# Altium footprint library Connector_PinHeader_2.54mm.PcbLib: 278 footprints (part 16 of 18)
Each footprint in its own frame and in the unit in brackets; x right, y up, seen from the top. Pads: shape width x height; smd on the part's side, far side on the other; paste and mask are expansions set on the pad; w line width, h text height; cw(c..) or ccw(c..) is an arc to the next point about the centre after c.
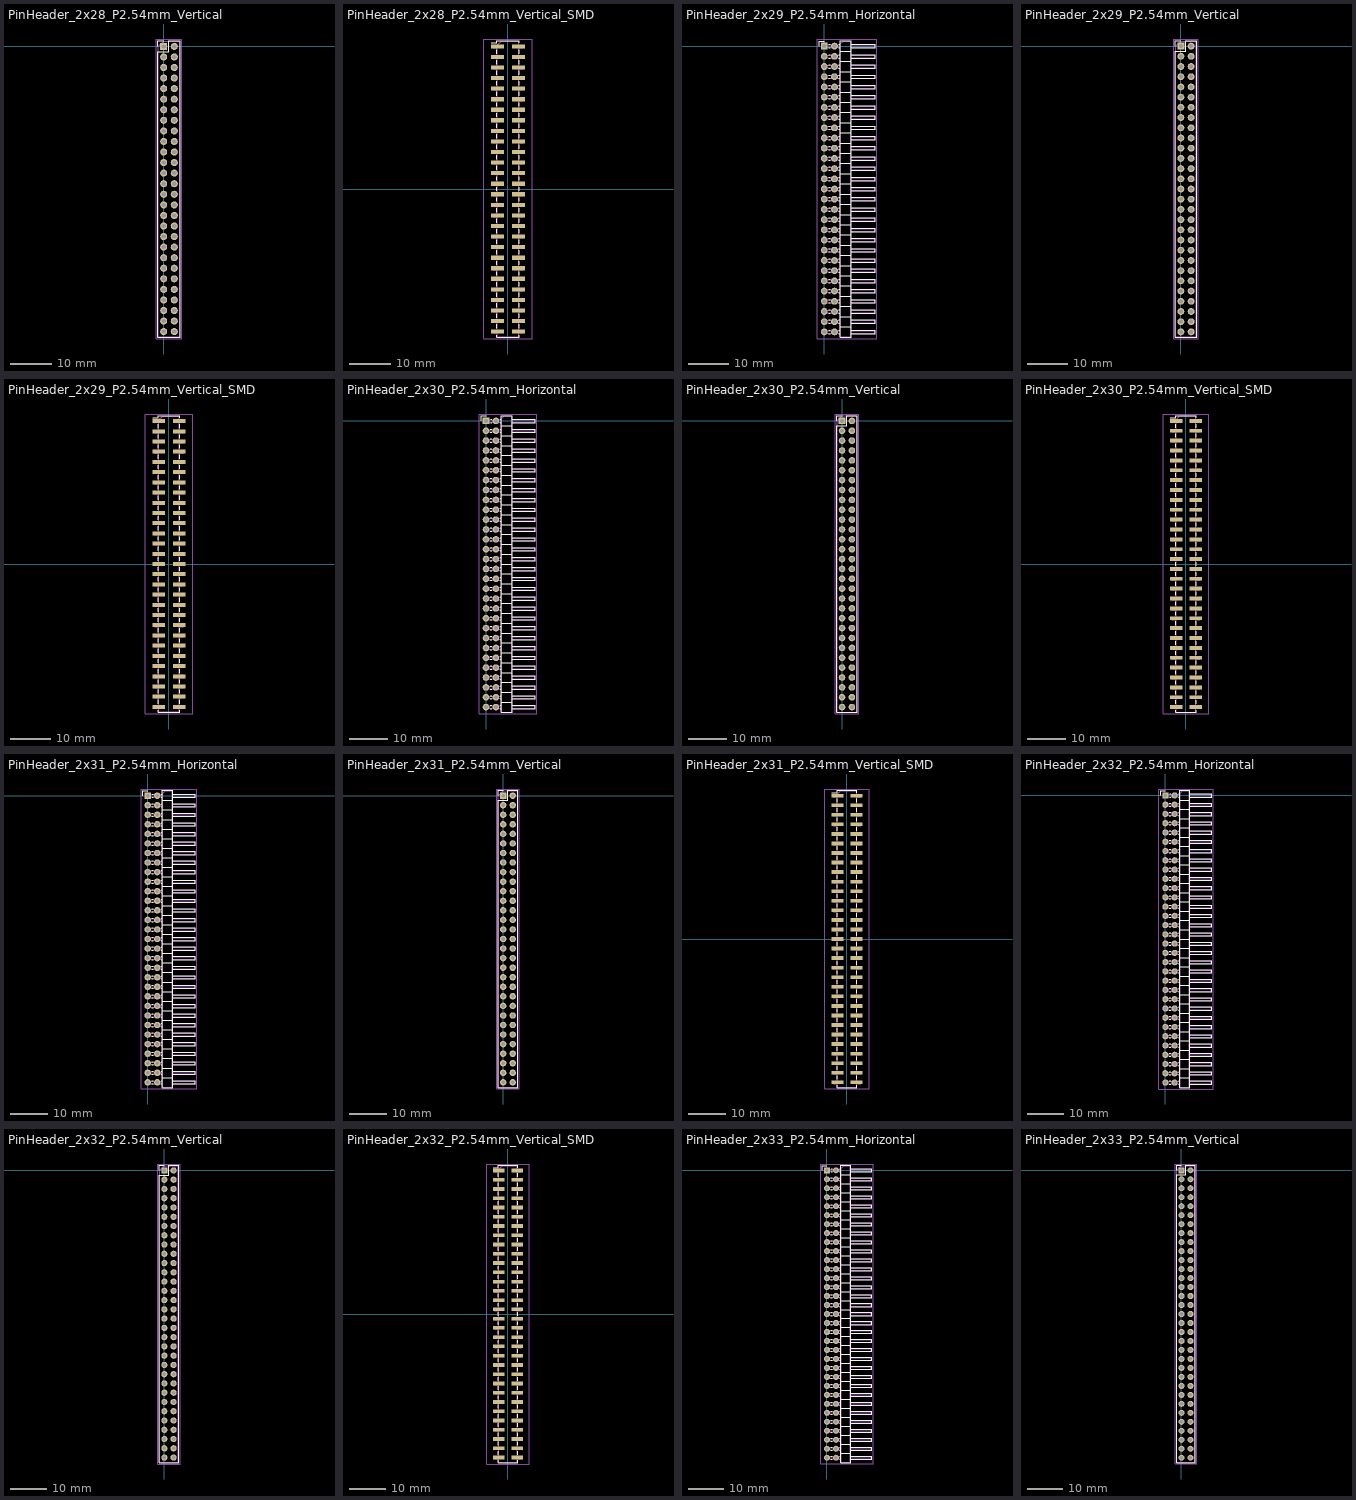
[diagram p15: the footprints below, top view; thin cyan lines are the x and y axes]

## PinHeader_2x28_P2.54mm_Vertical [mm]
pads (56):
  rect 1.7x1.7 hole 1: 1(0,0)
  round 1.7 hole 1: 2(2.54,0) 3(0,-2.54) 4(2.54,-2.54) 5(0,-5.08) 6(2.54,-5.08) 7(0,-7.62) 8(2.54,-7.62) 9(0,-10.16) 10(2.54,-10.16) 11(0,-12.7) 12(2.54,-12.7) 13(0,-15.24) 14(2.54,-15.24) 15(0,-17.78) 16(2.54,-17.78) 17(0,-20.32) 18(2.54,-20.32) 19(0,-22.86) 20(2.54,-22.86) 21(0,-25.4) 22(2.54,-25.4) 23(0,-27.94) 24(2.54,-27.94) 25(0,-30.48) 26(2.54,-30.48) 27(0,-33.02) 28(2.54,-33.02) 29(0,-35.56) 30(2.54,-35.56) 31(0,-38.1) 32(2.54,-38.1) 33(0,-40.64) 34(2.54,-40.64) 35(0,-43.18) 36(2.54,-43.18) 37(0,-45.72) 38(2.54,-45.72) 39(0,-48.26) 40(2.54,-48.26) 41(0,-50.8) 42(2.54,-50.8) 43(0,-53.34) 44(2.54,-53.34) 45(0,-55.88) 46(2.54,-55.88) 47(0,-58.42) 48(2.54,-58.42) 49(0,-60.96) 50(2.54,-60.96) 51(0,-63.5) 52(2.54,-63.5) 53(0,-66.04) 54(2.54,-66.04) 55(0,-68.58) 56(2.54,-68.58)
F.SilkS:
  lines w0.254: -1.38,0 -1.38,1.38 0,1.38 ; -1.38,-69.96 3.92,-69.96 3.92,1.38 1.27,1.38 1.27,-1.27 -1.38,-1.27 -1.38,-69.96
Top Assembly:
  lines w0.254: -1.27,-69.85 3.81,-69.85 3.81,1.27 0,1.27 -1.27,0 -1.27,-69.85
  text "'.Designator'" at 2.11,-38.337 h1
Top Courtyard:
  lines w0.254: -1.77,-70.35 4.32,-70.35 4.32,1.77 -1.77,1.77 -1.77,-70.35
Top Designator:
  text ".Designator" at -6.343,-34.798 h1.52

## PinHeader_2x28_P2.54mm_Vertical_SMD [mm]
pads (56):
  rect 3.15x1 smd: 1(-2.525,34.29) 2(2.525,34.29) 3(-2.525,31.75) 4(2.525,31.75) 5(-2.525,29.21) 6(2.525,29.21) 7(-2.525,26.67) 8(2.525,26.67) 9(-2.525,24.13) 10(2.525,24.13) 11(-2.525,21.59) 12(2.525,21.59) 13(-2.525,19.05) 14(2.525,19.05) 15(-2.525,16.51) 16(2.525,16.51) 17(-2.525,13.97) 18(2.525,13.97) 19(-2.525,11.43) 20(2.525,11.43) 21(-2.525,8.89) 22(2.525,8.89) 23(-2.525,6.35) 24(2.525,6.35) 25(-2.525,3.81) 26(2.525,3.81) 27(-2.525,1.27) 28(2.525,1.27) 29(-2.525,-1.27) 30(2.525,-1.27) 31(-2.525,-3.81) 32(2.525,-3.81) 33(-2.525,-6.35) 34(2.525,-6.35) 35(-2.525,-8.89) 36(2.525,-8.89) 37(-2.525,-11.43) 38(2.525,-11.43) 39(-2.525,-13.97) 40(2.525,-13.97) 41(-2.525,-16.51) 42(2.525,-16.51) 43(-2.525,-19.05) 44(2.525,-19.05) 45(-2.525,-21.59) 46(2.525,-21.59) 47(-2.525,-24.13) 48(2.525,-24.13) 49(-2.525,-26.67) 50(2.525,-26.67) 51(-2.525,-29.21) 52(2.525,-29.21) 53(-2.525,-31.75) 54(2.525,-31.75) 55(-2.525,-34.29) 56(2.525,-34.29)
F.SilkS:
  lines w0.254: -4.04,35.1 -2.65,35.1 -2.65,35.67 2.65,35.67 2.65,35.1 ; -2.65,-35.1 -2.65,-35.67 2.65,-35.67 2.65,-35.1 ; -2.65,-33.48 -2.65,-32.56 ; -2.65,-30.94 -2.65,-30.02 ; -2.65,-28.4 -2.65,-27.48 ; -2.65,-25.86 -2.65,-24.94 ; -2.65,-23.32 -2.65,-22.4 ; -2.65,-20.78 -2.65,-19.86 ; -2.65,-18.24 -2.65,-17.32 ; -2.65,-15.7 -2.65,-14.78 ; -2.65,-13.16 -2.65,-12.24 ; -2.65,-10.62 -2.65,-9.7 ; -2.65,-8.08 -2.65,-7.16 ; -2.65,-5.54 -2.65,-4.62 ; -2.65,-3 -2.65,-2.08 ; -2.65,-0.46 -2.65,0.46 ; -2.65,2.08 -2.65,3 ; -2.65,4.62 -2.65,5.54 ; -2.65,7.16 -2.65,8.08 ; -2.65,9.7 -2.65,10.62 ; -2.65,12.24 -2.65,13.16 ; -2.65,14.78 -2.65,15.7 ; -2.65,17.32 -2.65,18.24 ; -2.65,19.86 -2.65,20.78 ; -2.65,22.4 -2.65,23.32 ; -2.65,24.94 -2.65,25.86 ; -2.65,27.48 -2.65,28.4 ; -2.65,30.02 -2.65,30.94 ; -2.65,32.56 -2.65,33.48 ; 2.65,-33.48 2.65,-32.56 ; 2.65,-30.94 2.65,-30.02 ; 2.65,-28.4 2.65,-27.48 ; 2.65,-25.86 2.65,-24.94 ; 2.65,-23.32 2.65,-22.4 ; 2.65,-20.78 2.65,-19.86 ; 2.65,-18.24 2.65,-17.32 ; 2.65,-15.7 2.65,-14.78 ; 2.65,-13.16 2.65,-12.24 ; 2.65,-10.62 2.65,-9.7 ; 2.65,-8.08 2.65,-7.16 ; 2.65,-5.54 2.65,-4.62 ; 2.65,-3 2.65,-2.08 ; 2.65,-0.46 2.65,0.46 ; 2.65,2.08 2.65,3 ; 2.65,4.62 2.65,5.54 ; 2.65,7.16 2.65,8.08 ; 2.65,9.7 2.65,10.62 ; 2.65,12.24 2.65,13.16 ; 2.65,14.78 2.65,15.7 ; 2.65,17.32 2.65,18.24 ; 2.65,19.86 2.65,20.78 ; 2.65,22.4 2.65,23.32 ; 2.65,24.94 2.65,25.86 ; 2.65,27.48 2.65,28.4 ; 2.65,30.02 2.65,30.94 ; 2.65,32.56 2.65,33.48
Top Assembly:
  drawing of 173 lines, arcs and shapes, not listed
  text "'.Designator'" at 0.84,-4.047 h1
Top Courtyard:
  lines w0.254: -5.87,-36.06 5.88,-36.06 5.88,36.06 -5.87,36.06 -5.87,-36.06
Top Designator:
  text ".Designator" at -7.613,-0.508 h1.52

## PinHeader_2x29_P2.54mm_Horizontal [mm]
pads (58):
  rect 1.7x1.7 hole 1: 1(0,0)
  round 1.7 hole 1: 2(2.54,0) 3(0,-2.54) 4(2.54,-2.54) 5(0,-5.08) 6(2.54,-5.08) 7(0,-7.62) 8(2.54,-7.62) 9(0,-10.16) 10(2.54,-10.16) 11(0,-12.7) 12(2.54,-12.7) 13(0,-15.24) 14(2.54,-15.24) 15(0,-17.78) 16(2.54,-17.78) 17(0,-20.32) 18(2.54,-20.32) 19(0,-22.86) 20(2.54,-22.86) 21(0,-25.4) 22(2.54,-25.4) 23(0,-27.94) 24(2.54,-27.94) 25(0,-30.48) 26(2.54,-30.48) 27(0,-33.02) 28(2.54,-33.02) 29(0,-35.56) 30(2.54,-35.56) 31(0,-38.1) 32(2.54,-38.1) 33(0,-40.64) 34(2.54,-40.64) 35(0,-43.18) 36(2.54,-43.18) 37(0,-45.72) 38(2.54,-45.72) 39(0,-48.26) 40(2.54,-48.26) 41(0,-50.8) 42(2.54,-50.8) 43(0,-53.34) 44(2.54,-53.34) 45(0,-55.88) 46(2.54,-55.88) 47(0,-58.42) 48(2.54,-58.42) 49(0,-60.96) 50(2.54,-60.96) 51(0,-63.5) 52(2.54,-63.5) 53(0,-66.04) 54(2.54,-66.04) 55(0,-68.58) 56(2.54,-68.58) 57(0,-71.12) 58(2.54,-71.12)
F.SilkS:
  drawing of 238 lines, arcs and shapes, not listed
Top Assembly:
  drawing of 179 lines, arcs and shapes, not listed
  text "'.Designator'" at 6.15,-39.607 h1
Top Courtyard:
  lines w0.254: -1.77,-72.89 13.09,-72.89 13.09,1.77 -1.77,1.77 -1.77,-72.89
Top Designator:
  text ".Designator" at -1.958,-36.068 h1.52

## PinHeader_2x29_P2.54mm_Vertical [mm]
pads (58):
  rect 1.7x1.7 hole 1: 1(0,0)
  round 1.7 hole 1: 2(2.54,0) 3(0,-2.54) 4(2.54,-2.54) 5(0,-5.08) 6(2.54,-5.08) 7(0,-7.62) 8(2.54,-7.62) 9(0,-10.16) 10(2.54,-10.16) 11(0,-12.7) 12(2.54,-12.7) 13(0,-15.24) 14(2.54,-15.24) 15(0,-17.78) 16(2.54,-17.78) 17(0,-20.32) 18(2.54,-20.32) 19(0,-22.86) 20(2.54,-22.86) 21(0,-25.4) 22(2.54,-25.4) 23(0,-27.94) 24(2.54,-27.94) 25(0,-30.48) 26(2.54,-30.48) 27(0,-33.02) 28(2.54,-33.02) 29(0,-35.56) 30(2.54,-35.56) 31(0,-38.1) 32(2.54,-38.1) 33(0,-40.64) 34(2.54,-40.64) 35(0,-43.18) 36(2.54,-43.18) 37(0,-45.72) 38(2.54,-45.72) 39(0,-48.26) 40(2.54,-48.26) 41(0,-50.8) 42(2.54,-50.8) 43(0,-53.34) 44(2.54,-53.34) 45(0,-55.88) 46(2.54,-55.88) 47(0,-58.42) 48(2.54,-58.42) 49(0,-60.96) 50(2.54,-60.96) 51(0,-63.5) 52(2.54,-63.5) 53(0,-66.04) 54(2.54,-66.04) 55(0,-68.58) 56(2.54,-68.58) 57(0,-71.12) 58(2.54,-71.12)
F.SilkS:
  lines w0.254: -1.38,0 -1.38,1.38 0,1.38 ; -1.38,-72.5 3.92,-72.5 3.92,1.38 1.27,1.38 1.27,-1.27 -1.38,-1.27 -1.38,-72.5
Top Assembly:
  lines w0.254: -1.27,-72.39 3.81,-72.39 3.81,1.27 0,1.27 -1.27,0 -1.27,-72.39
  text "'.Designator'" at 2.11,-39.607 h1
Top Courtyard:
  lines w0.254: -1.77,-72.89 4.32,-72.89 4.32,1.77 -1.77,1.77 -1.77,-72.89
Top Designator:
  text ".Designator" at -6.343,-36.068 h1.52

## PinHeader_2x29_P2.54mm_Vertical_SMD [mm]
pads (58):
  rect 3.15x1 smd: 1(-2.525,35.56) 2(2.525,35.56) 3(-2.525,33.02) 4(2.525,33.02) 5(-2.525,30.48) 6(2.525,30.48) 7(-2.525,27.94) 8(2.525,27.94) 9(-2.525,25.4) 10(2.525,25.4) 11(-2.525,22.86) 12(2.525,22.86) 13(-2.525,20.32) 14(2.525,20.32) 15(-2.525,17.78) 16(2.525,17.78) 17(-2.525,15.24) 18(2.525,15.24) 19(-2.525,12.7) 20(2.525,12.7) 21(-2.525,10.16) 22(2.525,10.16) 23(-2.525,7.62) 24(2.525,7.62) 25(-2.525,5.08) 26(2.525,5.08) 27(-2.525,2.54) 28(2.525,2.54) 29(-2.525,0) 30(2.525,0) 31(-2.525,-2.54) 32(2.525,-2.54) 33(-2.525,-5.08) 34(2.525,-5.08) 35(-2.525,-7.62) 36(2.525,-7.62) 37(-2.525,-10.16) 38(2.525,-10.16) 39(-2.525,-12.7) 40(2.525,-12.7) 41(-2.525,-15.24) 42(2.525,-15.24) 43(-2.525,-17.78) 44(2.525,-17.78) 45(-2.525,-20.32) 46(2.525,-20.32) 47(-2.525,-22.86) 48(2.525,-22.86) 49(-2.525,-25.4) 50(2.525,-25.4) 51(-2.525,-27.94) 52(2.525,-27.94) 53(-2.525,-30.48) 54(2.525,-30.48) 55(-2.525,-33.02) 56(2.525,-33.02) 57(-2.525,-35.56) 58(2.525,-35.56)
F.SilkS:
  lines w0.254: -4.04,36.37 -2.65,36.37 -2.65,36.94 2.65,36.94 2.65,36.37 ; -2.65,-36.37 -2.65,-36.94 2.65,-36.94 2.65,-36.37 ; -2.65,-34.75 -2.65,-33.83 ; -2.65,-32.21 -2.65,-31.29 ; -2.65,-29.67 -2.65,-28.75 ; -2.65,-27.13 -2.65,-26.21 ; -2.65,-24.59 -2.65,-23.67 ; -2.65,-22.05 -2.65,-21.13 ; -2.65,-19.51 -2.65,-18.59 ; -2.65,-16.97 -2.65,-16.05 ; -2.65,-14.43 -2.65,-13.51 ; -2.65,-11.89 -2.65,-10.97 ; -2.65,-9.35 -2.65,-8.43 ; -2.65,-6.81 -2.65,-5.89 ; -2.65,-4.27 -2.65,-3.35 ; -2.65,-1.73 -2.65,-0.81 ; -2.65,0.81 -2.65,1.73 ; -2.65,3.35 -2.65,4.27 ; -2.65,5.89 -2.65,6.81 ; -2.65,8.43 -2.65,9.35 ; -2.65,10.97 -2.65,11.89 ; -2.65,13.51 -2.65,14.43 ; -2.65,16.05 -2.65,16.97 ; -2.65,18.59 -2.65,19.51 ; -2.65,21.13 -2.65,22.05 ; -2.65,23.67 -2.65,24.59 ; -2.65,26.21 -2.65,27.13 ; -2.65,28.75 -2.65,29.67 ; -2.65,31.29 -2.65,32.21 ; -2.65,33.83 -2.65,34.75 ; 2.65,-34.75 2.65,-33.83 ; 2.65,-32.21 2.65,-31.29 ; 2.65,-29.67 2.65,-28.75 ; 2.65,-27.13 2.65,-26.21 ; 2.65,-24.59 2.65,-23.67 ; 2.65,-22.05 2.65,-21.13 ; 2.65,-19.51 2.65,-18.59 ; 2.65,-16.97 2.65,-16.05 ; 2.65,-14.43 2.65,-13.51 ; 2.65,-11.89 2.65,-10.97 ; 2.65,-9.35 2.65,-8.43 ; 2.65,-6.81 2.65,-5.89 ; 2.65,-4.27 2.65,-3.35 ; 2.65,-1.73 2.65,-0.81 ; 2.65,0.81 2.65,1.73 ; 2.65,3.35 2.65,4.27 ; 2.65,5.89 2.65,6.81 ; 2.65,8.43 2.65,9.35 ; 2.65,10.97 2.65,11.89 ; 2.65,13.51 2.65,14.43 ; 2.65,16.05 2.65,16.97 ; 2.65,18.59 2.65,19.51 ; 2.65,21.13 2.65,22.05 ; 2.65,23.67 2.65,24.59 ; 2.65,26.21 2.65,27.13 ; 2.65,28.75 2.65,29.67 ; 2.65,31.29 2.65,32.21 ; 2.65,33.83 2.65,34.75
Top Assembly:
  drawing of 179 lines, arcs and shapes, not listed
  text "'.Designator'" at 0.84,-4.047 h1
Top Courtyard:
  lines w0.254: -5.87,-37.33 5.88,-37.33 5.88,37.33 -5.87,37.33 -5.87,-37.33
Top Designator:
  text ".Designator" at -7.613,-0.508 h1.52

## PinHeader_2x30_P2.54mm_Horizontal [mm]
pads (60):
  rect 1.7x1.7 hole 1: 1(0,0)
  round 1.7 hole 1: 2(2.54,0) 3(0,-2.54) 4(2.54,-2.54) 5(0,-5.08) 6(2.54,-5.08) 7(0,-7.62) 8(2.54,-7.62) 9(0,-10.16) 10(2.54,-10.16) 11(0,-12.7) 12(2.54,-12.7) 13(0,-15.24) 14(2.54,-15.24) 15(0,-17.78) 16(2.54,-17.78) 17(0,-20.32) 18(2.54,-20.32) 19(0,-22.86) 20(2.54,-22.86) 21(0,-25.4) 22(2.54,-25.4) 23(0,-27.94) 24(2.54,-27.94) 25(0,-30.48) 26(2.54,-30.48) 27(0,-33.02) 28(2.54,-33.02) 29(0,-35.56) 30(2.54,-35.56) 31(0,-38.1) 32(2.54,-38.1) 33(0,-40.64) 34(2.54,-40.64) 35(0,-43.18) 36(2.54,-43.18) 37(0,-45.72) 38(2.54,-45.72) 39(0,-48.26) 40(2.54,-48.26) 41(0,-50.8) 42(2.54,-50.8) 43(0,-53.34) 44(2.54,-53.34) 45(0,-55.88) 46(2.54,-55.88) 47(0,-58.42) 48(2.54,-58.42) 49(0,-60.96) 50(2.54,-60.96) 51(0,-63.5) 52(2.54,-63.5) 53(0,-66.04) 54(2.54,-66.04) 55(0,-68.58) 56(2.54,-68.58) 57(0,-71.12) 58(2.54,-71.12) 59(0,-73.66) 60(2.54,-73.66)
F.SilkS:
  drawing of 246 lines, arcs and shapes, not listed
Top Assembly:
  drawing of 185 lines, arcs and shapes, not listed
  text "'.Designator'" at 6.15,-40.877 h1
Top Courtyard:
  lines w0.254: -1.77,-75.43 13.09,-75.43 13.09,1.77 -1.77,1.77 -1.77,-75.43
Top Designator:
  text ".Designator" at -1.958,-37.338 h1.52

## PinHeader_2x30_P2.54mm_Vertical [mm]
pads (60):
  rect 1.7x1.7 hole 1: 1(0,0)
  round 1.7 hole 1: 2(2.54,0) 3(0,-2.54) 4(2.54,-2.54) 5(0,-5.08) 6(2.54,-5.08) 7(0,-7.62) 8(2.54,-7.62) 9(0,-10.16) 10(2.54,-10.16) 11(0,-12.7) 12(2.54,-12.7) 13(0,-15.24) 14(2.54,-15.24) 15(0,-17.78) 16(2.54,-17.78) 17(0,-20.32) 18(2.54,-20.32) 19(0,-22.86) 20(2.54,-22.86) 21(0,-25.4) 22(2.54,-25.4) 23(0,-27.94) 24(2.54,-27.94) 25(0,-30.48) 26(2.54,-30.48) 27(0,-33.02) 28(2.54,-33.02) 29(0,-35.56) 30(2.54,-35.56) 31(0,-38.1) 32(2.54,-38.1) 33(0,-40.64) 34(2.54,-40.64) 35(0,-43.18) 36(2.54,-43.18) 37(0,-45.72) 38(2.54,-45.72) 39(0,-48.26) 40(2.54,-48.26) 41(0,-50.8) 42(2.54,-50.8) 43(0,-53.34) 44(2.54,-53.34) 45(0,-55.88) 46(2.54,-55.88) 47(0,-58.42) 48(2.54,-58.42) 49(0,-60.96) 50(2.54,-60.96) 51(0,-63.5) 52(2.54,-63.5) 53(0,-66.04) 54(2.54,-66.04) 55(0,-68.58) 56(2.54,-68.58) 57(0,-71.12) 58(2.54,-71.12) 59(0,-73.66) 60(2.54,-73.66)
F.SilkS:
  lines w0.254: -1.38,0 -1.38,1.38 0,1.38 ; -1.38,-75.04 3.92,-75.04 3.92,1.38 1.27,1.38 1.27,-1.27 -1.38,-1.27 -1.38,-75.04
Top Assembly:
  lines w0.254: -1.27,-74.93 3.81,-74.93 3.81,1.27 0,1.27 -1.27,0 -1.27,-74.93
  text "'.Designator'" at 2.11,-40.877 h1
Top Courtyard:
  lines w0.254: -1.77,-75.43 4.32,-75.43 4.32,1.77 -1.77,1.77 -1.77,-75.43
Top Designator:
  text ".Designator" at -6.343,-37.338 h1.52

## PinHeader_2x30_P2.54mm_Vertical_SMD [mm]
pads (60):
  rect 3.15x1 smd: 1(-2.525,36.83) 2(2.525,36.83) 3(-2.525,34.29) 4(2.525,34.29) 5(-2.525,31.75) 6(2.525,31.75) 7(-2.525,29.21) 8(2.525,29.21) 9(-2.525,26.67) 10(2.525,26.67) 11(-2.525,24.13) 12(2.525,24.13) 13(-2.525,21.59) 14(2.525,21.59) 15(-2.525,19.05) 16(2.525,19.05) 17(-2.525,16.51) 18(2.525,16.51) 19(-2.525,13.97) 20(2.525,13.97) 21(-2.525,11.43) 22(2.525,11.43) 23(-2.525,8.89) 24(2.525,8.89) 25(-2.525,6.35) 26(2.525,6.35) 27(-2.525,3.81) 28(2.525,3.81) 29(-2.525,1.27) 30(2.525,1.27) 31(-2.525,-1.27) 32(2.525,-1.27) 33(-2.525,-3.81) 34(2.525,-3.81) 35(-2.525,-6.35) 36(2.525,-6.35) 37(-2.525,-8.89) 38(2.525,-8.89) 39(-2.525,-11.43) 40(2.525,-11.43) 41(-2.525,-13.97) 42(2.525,-13.97) 43(-2.525,-16.51) 44(2.525,-16.51) 45(-2.525,-19.05) 46(2.525,-19.05) 47(-2.525,-21.59) 48(2.525,-21.59) 49(-2.525,-24.13) 50(2.525,-24.13) 51(-2.525,-26.67) 52(2.525,-26.67) 53(-2.525,-29.21) 54(2.525,-29.21) 55(-2.525,-31.75) 56(2.525,-31.75) 57(-2.525,-34.29) 58(2.525,-34.29) 59(-2.525,-36.83) 60(2.525,-36.83)
F.SilkS:
  lines w0.254: -4.04,37.64 -2.65,37.64 -2.65,38.21 2.65,38.21 2.65,37.64 ; -2.65,-37.64 -2.65,-38.21 2.65,-38.21 2.65,-37.64 ; -2.65,-36.02 -2.65,-35.1 ; -2.65,-33.48 -2.65,-32.56 ; -2.65,-30.94 -2.65,-30.02 ; -2.65,-28.4 -2.65,-27.48 ; -2.65,-25.86 -2.65,-24.94 ; -2.65,-23.32 -2.65,-22.4 ; -2.65,-20.78 -2.65,-19.86 ; -2.65,-18.24 -2.65,-17.32 ; -2.65,-15.7 -2.65,-14.78 ; -2.65,-13.16 -2.65,-12.24 ; -2.65,-10.62 -2.65,-9.7 ; -2.65,-8.08 -2.65,-7.16 ; -2.65,-5.54 -2.65,-4.62 ; -2.65,-3 -2.65,-2.08 ; -2.65,-0.46 -2.65,0.46 ; -2.65,2.08 -2.65,3 ; -2.65,4.62 -2.65,5.54 ; -2.65,7.16 -2.65,8.08 ; -2.65,9.7 -2.65,10.62 ; -2.65,12.24 -2.65,13.16 ; -2.65,14.78 -2.65,15.7 ; -2.65,17.32 -2.65,18.24 ; -2.65,19.86 -2.65,20.78 ; -2.65,22.4 -2.65,23.32 ; -2.65,24.94 -2.65,25.86 ; -2.65,27.48 -2.65,28.4 ; -2.65,30.02 -2.65,30.94 ; -2.65,32.56 -2.65,33.48 ; -2.65,35.1 -2.65,36.02 ; 2.65,-36.02 2.65,-35.1 ; 2.65,-33.48 2.65,-32.56 ; 2.65,-30.94 2.65,-30.02 ; 2.65,-28.4 2.65,-27.48 ; 2.65,-25.86 2.65,-24.94 ; 2.65,-23.32 2.65,-22.4 ; 2.65,-20.78 2.65,-19.86 ; 2.65,-18.24 2.65,-17.32 ; 2.65,-15.7 2.65,-14.78 ; 2.65,-13.16 2.65,-12.24 ; 2.65,-10.62 2.65,-9.7 ; 2.65,-8.08 2.65,-7.16 ; 2.65,-5.54 2.65,-4.62 ; 2.65,-3 2.65,-2.08 ; 2.65,-0.46 2.65,0.46 ; 2.65,2.08 2.65,3 ; 2.65,4.62 2.65,5.54 ; 2.65,7.16 2.65,8.08 ; 2.65,9.7 2.65,10.62 ; 2.65,12.24 2.65,13.16 ; 2.65,14.78 2.65,15.7 ; 2.65,17.32 2.65,18.24 ; 2.65,19.86 2.65,20.78 ; 2.65,22.4 2.65,23.32 ; 2.65,24.94 2.65,25.86 ; 2.65,27.48 2.65,28.4 ; 2.65,30.02 2.65,30.94 ; 2.65,32.56 2.65,33.48 ; 2.65,35.1 2.65,36.02
Top Assembly:
  drawing of 185 lines, arcs and shapes, not listed
  text "'.Designator'" at 0.84,-4.047 h1
Top Courtyard:
  lines w0.254: -5.87,-38.6 5.88,-38.6 5.88,38.6 -5.87,38.6 -5.87,-38.6
Top Designator:
  text ".Designator" at -7.613,-0.508 h1.52

## PinHeader_2x31_P2.54mm_Horizontal [mm]
pads (62):
  rect 1.7x1.7 hole 1: 1(0,0)
  round 1.7 hole 1: 2(2.54,0) 3(0,-2.54) 4(2.54,-2.54) 5(0,-5.08) 6(2.54,-5.08) 7(0,-7.62) 8(2.54,-7.62) 9(0,-10.16) 10(2.54,-10.16) 11(0,-12.7) 12(2.54,-12.7) 13(0,-15.24) 14(2.54,-15.24) 15(0,-17.78) 16(2.54,-17.78) 17(0,-20.32) 18(2.54,-20.32) 19(0,-22.86) 20(2.54,-22.86) 21(0,-25.4) 22(2.54,-25.4) 23(0,-27.94) 24(2.54,-27.94) 25(0,-30.48) 26(2.54,-30.48) 27(0,-33.02) 28(2.54,-33.02) 29(0,-35.56) 30(2.54,-35.56) 31(0,-38.1) 32(2.54,-38.1) 33(0,-40.64) 34(2.54,-40.64) 35(0,-43.18) 36(2.54,-43.18) 37(0,-45.72) 38(2.54,-45.72) 39(0,-48.26) 40(2.54,-48.26) 41(0,-50.8) 42(2.54,-50.8) 43(0,-53.34) 44(2.54,-53.34) 45(0,-55.88) 46(2.54,-55.88) 47(0,-58.42) 48(2.54,-58.42) 49(0,-60.96) 50(2.54,-60.96) 51(0,-63.5) 52(2.54,-63.5) 53(0,-66.04) 54(2.54,-66.04) 55(0,-68.58) 56(2.54,-68.58) 57(0,-71.12) 58(2.54,-71.12) 59(0,-73.66) 60(2.54,-73.66) 61(0,-76.2) 62(2.54,-76.2)
F.SilkS:
  drawing of 254 lines, arcs and shapes, not listed
Top Assembly:
  drawing of 191 lines, arcs and shapes, not listed
  text "'.Designator'" at 6.15,-42.147 h1
Top Courtyard:
  lines w0.254: -1.77,-77.97 13.09,-77.97 13.09,1.77 -1.77,1.77 -1.77,-77.97
Top Designator:
  text ".Designator" at -1.958,-38.608 h1.52

## PinHeader_2x31_P2.54mm_Vertical [mm]
pads (62):
  rect 1.7x1.7 hole 1: 1(0,0)
  round 1.7 hole 1: 2(2.54,0) 3(0,-2.54) 4(2.54,-2.54) 5(0,-5.08) 6(2.54,-5.08) 7(0,-7.62) 8(2.54,-7.62) 9(0,-10.16) 10(2.54,-10.16) 11(0,-12.7) 12(2.54,-12.7) 13(0,-15.24) 14(2.54,-15.24) 15(0,-17.78) 16(2.54,-17.78) 17(0,-20.32) 18(2.54,-20.32) 19(0,-22.86) 20(2.54,-22.86) 21(0,-25.4) 22(2.54,-25.4) 23(0,-27.94) 24(2.54,-27.94) 25(0,-30.48) 26(2.54,-30.48) 27(0,-33.02) 28(2.54,-33.02) 29(0,-35.56) 30(2.54,-35.56) 31(0,-38.1) 32(2.54,-38.1) 33(0,-40.64) 34(2.54,-40.64) 35(0,-43.18) 36(2.54,-43.18) 37(0,-45.72) 38(2.54,-45.72) 39(0,-48.26) 40(2.54,-48.26) 41(0,-50.8) 42(2.54,-50.8) 43(0,-53.34) 44(2.54,-53.34) 45(0,-55.88) 46(2.54,-55.88) 47(0,-58.42) 48(2.54,-58.42) 49(0,-60.96) 50(2.54,-60.96) 51(0,-63.5) 52(2.54,-63.5) 53(0,-66.04) 54(2.54,-66.04) 55(0,-68.58) 56(2.54,-68.58) 57(0,-71.12) 58(2.54,-71.12) 59(0,-73.66) 60(2.54,-73.66) 61(0,-76.2) 62(2.54,-76.2)
F.SilkS:
  lines w0.254: -1.38,0 -1.38,1.38 0,1.38 ; -1.38,-77.58 3.92,-77.58 3.92,1.38 1.27,1.38 1.27,-1.27 -1.38,-1.27 -1.38,-77.58
Top Assembly:
  lines w0.254: -1.27,-77.47 3.81,-77.47 3.81,1.27 0,1.27 -1.27,0 -1.27,-77.47
  text "'.Designator'" at 2.11,-42.147 h1
Top Courtyard:
  lines w0.254: -1.77,-77.97 4.32,-77.97 4.32,1.77 -1.77,1.77 -1.77,-77.97
Top Designator:
  text ".Designator" at -6.343,-38.608 h1.52

## PinHeader_2x31_P2.54mm_Vertical_SMD [mm]
pads (62):
  rect 3.15x1 smd: 1(-2.525,38.1) 2(2.525,38.1) 3(-2.525,35.56) 4(2.525,35.56) 5(-2.525,33.02) 6(2.525,33.02) 7(-2.525,30.48) 8(2.525,30.48) 9(-2.525,27.94) 10(2.525,27.94) 11(-2.525,25.4) 12(2.525,25.4) 13(-2.525,22.86) 14(2.525,22.86) 15(-2.525,20.32) 16(2.525,20.32) 17(-2.525,17.78) 18(2.525,17.78) 19(-2.525,15.24) 20(2.525,15.24) 21(-2.525,12.7) 22(2.525,12.7) 23(-2.525,10.16) 24(2.525,10.16) 25(-2.525,7.62) 26(2.525,7.62) 27(-2.525,5.08) 28(2.525,5.08) 29(-2.525,2.54) 30(2.525,2.54) 31(-2.525,0) 32(2.525,0) 33(-2.525,-2.54) 34(2.525,-2.54) 35(-2.525,-5.08) 36(2.525,-5.08) 37(-2.525,-7.62) 38(2.525,-7.62) 39(-2.525,-10.16) 40(2.525,-10.16) 41(-2.525,-12.7) 42(2.525,-12.7) 43(-2.525,-15.24) 44(2.525,-15.24) 45(-2.525,-17.78) 46(2.525,-17.78) 47(-2.525,-20.32) 48(2.525,-20.32) 49(-2.525,-22.86) 50(2.525,-22.86) 51(-2.525,-25.4) 52(2.525,-25.4) 53(-2.525,-27.94) 54(2.525,-27.94) 55(-2.525,-30.48) 56(2.525,-30.48) 57(-2.525,-33.02) 58(2.525,-33.02) 59(-2.525,-35.56) 60(2.525,-35.56) 61(-2.525,-38.1) 62(2.525,-38.1)
F.SilkS:
  lines w0.254: -4.04,38.91 -2.65,38.91 -2.65,39.48 2.65,39.48 2.65,38.91 ; -2.65,-38.91 -2.65,-39.48 2.65,-39.48 2.65,-38.91 ; -2.65,-37.29 -2.65,-36.37 ; -2.65,-34.75 -2.65,-33.83 ; -2.65,-32.21 -2.65,-31.29 ; -2.65,-29.67 -2.65,-28.75 ; -2.65,-27.13 -2.65,-26.21 ; -2.65,-24.59 -2.65,-23.67 ; -2.65,-22.05 -2.65,-21.13 ; -2.65,-19.51 -2.65,-18.59 ; -2.65,-16.97 -2.65,-16.05 ; -2.65,-14.43 -2.65,-13.51 ; -2.65,-11.89 -2.65,-10.97 ; -2.65,-9.35 -2.65,-8.43 ; -2.65,-6.81 -2.65,-5.89 ; -2.65,-4.27 -2.65,-3.35 ; -2.65,-1.73 -2.65,-0.81 ; -2.65,0.81 -2.65,1.73 ; -2.65,3.35 -2.65,4.27 ; -2.65,5.89 -2.65,6.81 ; -2.65,8.43 -2.65,9.35 ; -2.65,10.97 -2.65,11.89 ; -2.65,13.51 -2.65,14.43 ; -2.65,16.05 -2.65,16.97 ; -2.65,18.59 -2.65,19.51 ; -2.65,21.13 -2.65,22.05 ; -2.65,23.67 -2.65,24.59 ; -2.65,26.21 -2.65,27.13 ; -2.65,28.75 -2.65,29.67 ; -2.65,31.29 -2.65,32.21 ; -2.65,33.83 -2.65,34.75 ; -2.65,36.37 -2.65,37.29 ; 2.65,-37.29 2.65,-36.37 ; 2.65,-34.75 2.65,-33.83 ; 2.65,-32.21 2.65,-31.29 ; 2.65,-29.67 2.65,-28.75 ; 2.65,-27.13 2.65,-26.21 ; 2.65,-24.59 2.65,-23.67 ; 2.65,-22.05 2.65,-21.13 ; 2.65,-19.51 2.65,-18.59 ; 2.65,-16.97 2.65,-16.05 ; 2.65,-14.43 2.65,-13.51 ; 2.65,-11.89 2.65,-10.97 ; 2.65,-9.35 2.65,-8.43 ; 2.65,-6.81 2.65,-5.89 ; 2.65,-4.27 2.65,-3.35 ; 2.65,-1.73 2.65,-0.81 ; 2.65,0.81 2.65,1.73 ; 2.65,3.35 2.65,4.27 ; 2.65,5.89 2.65,6.81 ; 2.65,8.43 2.65,9.35 ; 2.65,10.97 2.65,11.89 ; 2.65,13.51 2.65,14.43 ; 2.65,16.05 2.65,16.97 ; 2.65,18.59 2.65,19.51 ; 2.65,21.13 2.65,22.05 ; 2.65,23.67 2.65,24.59 ; 2.65,26.21 2.65,27.13 ; 2.65,28.75 2.65,29.67 ; 2.65,31.29 2.65,32.21 ; 2.65,33.83 2.65,34.75 ; 2.65,36.37 2.65,37.29
Top Assembly:
  drawing of 191 lines, arcs and shapes, not listed
  text "'.Designator'" at 0.84,-4.047 h1
Top Courtyard:
  lines w0.254: -5.87,-39.87 5.88,-39.87 5.88,39.87 -5.87,39.87 -5.87,-39.87
Top Designator:
  text ".Designator" at -7.613,-0.508 h1.52

## PinHeader_2x32_P2.54mm_Horizontal [mm]
pads (64):
  rect 1.7x1.7 hole 1: 1(0,0)
  round 1.7 hole 1: 2(2.54,0) 3(0,-2.54) 4(2.54,-2.54) 5(0,-5.08) 6(2.54,-5.08) 7(0,-7.62) 8(2.54,-7.62) 9(0,-10.16) 10(2.54,-10.16) 11(0,-12.7) 12(2.54,-12.7) 13(0,-15.24) 14(2.54,-15.24) 15(0,-17.78) 16(2.54,-17.78) 17(0,-20.32) 18(2.54,-20.32) 19(0,-22.86) 20(2.54,-22.86) 21(0,-25.4) 22(2.54,-25.4) 23(0,-27.94) 24(2.54,-27.94) 25(0,-30.48) 26(2.54,-30.48) 27(0,-33.02) 28(2.54,-33.02) 29(0,-35.56) 30(2.54,-35.56) 31(0,-38.1) 32(2.54,-38.1) 33(0,-40.64) 34(2.54,-40.64) 35(0,-43.18) 36(2.54,-43.18) 37(0,-45.72) 38(2.54,-45.72) 39(0,-48.26) 40(2.54,-48.26) 41(0,-50.8) 42(2.54,-50.8) 43(0,-53.34) 44(2.54,-53.34) 45(0,-55.88) 46(2.54,-55.88) 47(0,-58.42) 48(2.54,-58.42) 49(0,-60.96) 50(2.54,-60.96) 51(0,-63.5) 52(2.54,-63.5) 53(0,-66.04) 54(2.54,-66.04) 55(0,-68.58) 56(2.54,-68.58) 57(0,-71.12) 58(2.54,-71.12) 59(0,-73.66) 60(2.54,-73.66) 61(0,-76.2) 62(2.54,-76.2) 63(0,-78.74) 64(2.54,-78.74)
F.SilkS:
  drawing of 262 lines, arcs and shapes, not listed
Top Assembly:
  drawing of 197 lines, arcs and shapes, not listed
  text "'.Designator'" at 6.15,-43.417 h1
Top Courtyard:
  lines w0.254: -1.77,-80.51 13.09,-80.51 13.09,1.77 -1.77,1.77 -1.77,-80.51
Top Designator:
  text ".Designator" at -1.958,-39.878 h1.52

## PinHeader_2x32_P2.54mm_Vertical [mm]
pads (64):
  rect 1.7x1.7 hole 1: 1(0,0)
  round 1.7 hole 1: 2(2.54,0) 3(0,-2.54) 4(2.54,-2.54) 5(0,-5.08) 6(2.54,-5.08) 7(0,-7.62) 8(2.54,-7.62) 9(0,-10.16) 10(2.54,-10.16) 11(0,-12.7) 12(2.54,-12.7) 13(0,-15.24) 14(2.54,-15.24) 15(0,-17.78) 16(2.54,-17.78) 17(0,-20.32) 18(2.54,-20.32) 19(0,-22.86) 20(2.54,-22.86) 21(0,-25.4) 22(2.54,-25.4) 23(0,-27.94) 24(2.54,-27.94) 25(0,-30.48) 26(2.54,-30.48) 27(0,-33.02) 28(2.54,-33.02) 29(0,-35.56) 30(2.54,-35.56) 31(0,-38.1) 32(2.54,-38.1) 33(0,-40.64) 34(2.54,-40.64) 35(0,-43.18) 36(2.54,-43.18) 37(0,-45.72) 38(2.54,-45.72) 39(0,-48.26) 40(2.54,-48.26) 41(0,-50.8) 42(2.54,-50.8) 43(0,-53.34) 44(2.54,-53.34) 45(0,-55.88) 46(2.54,-55.88) 47(0,-58.42) 48(2.54,-58.42) 49(0,-60.96) 50(2.54,-60.96) 51(0,-63.5) 52(2.54,-63.5) 53(0,-66.04) 54(2.54,-66.04) 55(0,-68.58) 56(2.54,-68.58) 57(0,-71.12) 58(2.54,-71.12) 59(0,-73.66) 60(2.54,-73.66) 61(0,-76.2) 62(2.54,-76.2) 63(0,-78.74) 64(2.54,-78.74)
F.SilkS:
  lines w0.254: -1.38,0 -1.38,1.38 0,1.38 ; -1.38,-80.12 3.92,-80.12 3.92,1.38 1.27,1.38 1.27,-1.27 -1.38,-1.27 -1.38,-80.12
Top Assembly:
  lines w0.254: -1.27,-80.01 3.81,-80.01 3.81,1.27 0,1.27 -1.27,0 -1.27,-80.01
  text "'.Designator'" at 2.11,-43.417 h1
Top Courtyard:
  lines w0.254: -1.77,-80.51 4.32,-80.51 4.32,1.77 -1.77,1.77 -1.77,-80.51
Top Designator:
  text ".Designator" at -6.343,-39.878 h1.52

## PinHeader_2x32_P2.54mm_Vertical_SMD [mm]
pads (64):
  rect 3.15x1 smd: 1(-2.525,39.37) 2(2.525,39.37) 3(-2.525,36.83) 4(2.525,36.83) 5(-2.525,34.29) 6(2.525,34.29) 7(-2.525,31.75) 8(2.525,31.75) 9(-2.525,29.21) 10(2.525,29.21) 11(-2.525,26.67) 12(2.525,26.67) 13(-2.525,24.13) 14(2.525,24.13) 15(-2.525,21.59) 16(2.525,21.59) 17(-2.525,19.05) 18(2.525,19.05) 19(-2.525,16.51) 20(2.525,16.51) 21(-2.525,13.97) 22(2.525,13.97) 23(-2.525,11.43) 24(2.525,11.43) 25(-2.525,8.89) 26(2.525,8.89) 27(-2.525,6.35) 28(2.525,6.35) 29(-2.525,3.81) 30(2.525,3.81) 31(-2.525,1.27) 32(2.525,1.27) 33(-2.525,-1.27) 34(2.525,-1.27) 35(-2.525,-3.81) 36(2.525,-3.81) 37(-2.525,-6.35) 38(2.525,-6.35) 39(-2.525,-8.89) 40(2.525,-8.89) 41(-2.525,-11.43) 42(2.525,-11.43) 43(-2.525,-13.97) 44(2.525,-13.97) 45(-2.525,-16.51) 46(2.525,-16.51) 47(-2.525,-19.05) 48(2.525,-19.05) 49(-2.525,-21.59) 50(2.525,-21.59) 51(-2.525,-24.13) 52(2.525,-24.13) 53(-2.525,-26.67) 54(2.525,-26.67) 55(-2.525,-29.21) 56(2.525,-29.21) 57(-2.525,-31.75) 58(2.525,-31.75) 59(-2.525,-34.29) 60(2.525,-34.29) 61(-2.525,-36.83) 62(2.525,-36.83) 63(-2.525,-39.37) 64(2.525,-39.37)
F.SilkS:
  lines w0.254: -4.04,40.18 -2.65,40.18 -2.65,40.75 2.65,40.75 2.65,40.18 ; -2.65,-40.18 -2.65,-40.75 2.65,-40.75 2.65,-40.18 ; -2.65,-38.56 -2.65,-37.64 ; -2.65,-36.02 -2.65,-35.1 ; -2.65,-33.48 -2.65,-32.56 ; -2.65,-30.94 -2.65,-30.02 ; -2.65,-28.4 -2.65,-27.48 ; -2.65,-25.86 -2.65,-24.94 ; -2.65,-23.32 -2.65,-22.4 ; -2.65,-20.78 -2.65,-19.86 ; -2.65,-18.24 -2.65,-17.32 ; -2.65,-15.7 -2.65,-14.78 ; -2.65,-13.16 -2.65,-12.24 ; -2.65,-10.62 -2.65,-9.7 ; -2.65,-8.08 -2.65,-7.16 ; -2.65,-5.54 -2.65,-4.62 ; -2.65,-3 -2.65,-2.08 ; -2.65,-0.46 -2.65,0.46 ; -2.65,2.08 -2.65,3 ; -2.65,4.62 -2.65,5.54 ; -2.65,7.16 -2.65,8.08 ; -2.65,9.7 -2.65,10.62 ; -2.65,12.24 -2.65,13.16 ; -2.65,14.78 -2.65,15.7 ; -2.65,17.32 -2.65,18.24 ; -2.65,19.86 -2.65,20.78 ; -2.65,22.4 -2.65,23.32 ; -2.65,24.94 -2.65,25.86 ; -2.65,27.48 -2.65,28.4 ; -2.65,30.02 -2.65,30.94 ; -2.65,32.56 -2.65,33.48 ; -2.65,35.1 -2.65,36.02 ; -2.65,37.64 -2.65,38.56 ; 2.65,-38.56 2.65,-37.64 ; 2.65,-36.02 2.65,-35.1 ; 2.65,-33.48 2.65,-32.56 ; 2.65,-30.94 2.65,-30.02 ; 2.65,-28.4 2.65,-27.48 ; 2.65,-25.86 2.65,-24.94 ; 2.65,-23.32 2.65,-22.4 ; 2.65,-20.78 2.65,-19.86 ; 2.65,-18.24 2.65,-17.32 ; 2.65,-15.7 2.65,-14.78 ; 2.65,-13.16 2.65,-12.24 ; 2.65,-10.62 2.65,-9.7 ; 2.65,-8.08 2.65,-7.16 ; 2.65,-5.54 2.65,-4.62 ; 2.65,-3 2.65,-2.08 ; 2.65,-0.46 2.65,0.46 ; 2.65,2.08 2.65,3 ; 2.65,4.62 2.65,5.54 ; 2.65,7.16 2.65,8.08 ; 2.65,9.7 2.65,10.62 ; 2.65,12.24 2.65,13.16 ; 2.65,14.78 2.65,15.7 ; 2.65,17.32 2.65,18.24 ; 2.65,19.86 2.65,20.78 ; 2.65,22.4 2.65,23.32 ; 2.65,24.94 2.65,25.86 ; 2.65,27.48 2.65,28.4 ; 2.65,30.02 2.65,30.94 ; 2.65,32.56 2.65,33.48 ; 2.65,35.1 2.65,36.02 ; 2.65,37.64 2.65,38.56
Top Assembly:
  drawing of 197 lines, arcs and shapes, not listed
  text "'.Designator'" at 0.84,-4.047 h1
Top Courtyard:
  lines w0.254: -5.87,-41.14 5.88,-41.14 5.88,41.14 -5.87,41.14 -5.87,-41.14
Top Designator:
  text ".Designator" at -7.613,-0.508 h1.52

## PinHeader_2x33_P2.54mm_Horizontal [mm]
pads (66):
  rect 1.7x1.7 hole 1: 1(0,0)
  round 1.7 hole 1: 2(2.54,0) 3(0,-2.54) 4(2.54,-2.54) 5(0,-5.08) 6(2.54,-5.08) 7(0,-7.62) 8(2.54,-7.62) 9(0,-10.16) 10(2.54,-10.16) 11(0,-12.7) 12(2.54,-12.7) 13(0,-15.24) 14(2.54,-15.24) 15(0,-17.78) 16(2.54,-17.78) 17(0,-20.32) 18(2.54,-20.32) 19(0,-22.86) 20(2.54,-22.86) 21(0,-25.4) 22(2.54,-25.4) 23(0,-27.94) 24(2.54,-27.94) 25(0,-30.48) 26(2.54,-30.48) 27(0,-33.02) 28(2.54,-33.02) 29(0,-35.56) 30(2.54,-35.56) 31(0,-38.1) 32(2.54,-38.1) 33(0,-40.64) 34(2.54,-40.64) 35(0,-43.18) 36(2.54,-43.18) 37(0,-45.72) 38(2.54,-45.72) 39(0,-48.26) 40(2.54,-48.26) 41(0,-50.8) 42(2.54,-50.8) 43(0,-53.34) 44(2.54,-53.34) 45(0,-55.88) 46(2.54,-55.88) 47(0,-58.42) 48(2.54,-58.42) 49(0,-60.96) 50(2.54,-60.96) 51(0,-63.5) 52(2.54,-63.5) 53(0,-66.04) 54(2.54,-66.04) 55(0,-68.58) 56(2.54,-68.58) 57(0,-71.12) 58(2.54,-71.12) 59(0,-73.66) 60(2.54,-73.66) 61(0,-76.2) 62(2.54,-76.2) 63(0,-78.74) 64(2.54,-78.74) 65(0,-81.28) 66(2.54,-81.28)
F.SilkS:
  drawing of 270 lines, arcs and shapes, not listed
Top Assembly:
  drawing of 203 lines, arcs and shapes, not listed
  text "'.Designator'" at 6.15,-44.687 h1
Top Courtyard:
  lines w0.254: -1.77,-83.05 13.09,-83.05 13.09,1.77 -1.77,1.77 -1.77,-83.05
Top Designator:
  text ".Designator" at -1.958,-41.148 h1.52

## PinHeader_2x33_P2.54mm_Vertical [mm]
pads (66):
  rect 1.7x1.7 hole 1: 1(0,0)
  round 1.7 hole 1: 2(2.54,0) 3(0,-2.54) 4(2.54,-2.54) 5(0,-5.08) 6(2.54,-5.08) 7(0,-7.62) 8(2.54,-7.62) 9(0,-10.16) 10(2.54,-10.16) 11(0,-12.7) 12(2.54,-12.7) 13(0,-15.24) 14(2.54,-15.24) 15(0,-17.78) 16(2.54,-17.78) 17(0,-20.32) 18(2.54,-20.32) 19(0,-22.86) 20(2.54,-22.86) 21(0,-25.4) 22(2.54,-25.4) 23(0,-27.94) 24(2.54,-27.94) 25(0,-30.48) 26(2.54,-30.48) 27(0,-33.02) 28(2.54,-33.02) 29(0,-35.56) 30(2.54,-35.56) 31(0,-38.1) 32(2.54,-38.1) 33(0,-40.64) 34(2.54,-40.64) 35(0,-43.18) 36(2.54,-43.18) 37(0,-45.72) 38(2.54,-45.72) 39(0,-48.26) 40(2.54,-48.26) 41(0,-50.8) 42(2.54,-50.8) 43(0,-53.34) 44(2.54,-53.34) 45(0,-55.88) 46(2.54,-55.88) 47(0,-58.42) 48(2.54,-58.42) 49(0,-60.96) 50(2.54,-60.96) 51(0,-63.5) 52(2.54,-63.5) 53(0,-66.04) 54(2.54,-66.04) 55(0,-68.58) 56(2.54,-68.58) 57(0,-71.12) 58(2.54,-71.12) 59(0,-73.66) 60(2.54,-73.66) 61(0,-76.2) 62(2.54,-76.2) 63(0,-78.74) 64(2.54,-78.74) 65(0,-81.28) 66(2.54,-81.28)
F.SilkS:
  lines w0.254: -1.38,0 -1.38,1.38 0,1.38 ; -1.38,-82.66 3.92,-82.66 3.92,1.38 1.27,1.38 1.27,-1.27 -1.38,-1.27 -1.38,-82.66
Top Assembly:
  lines w0.254: -1.27,-82.55 3.81,-82.55 3.81,1.27 0,1.27 -1.27,0 -1.27,-82.55
  text "'.Designator'" at 2.11,-44.687 h1
Top Courtyard:
  lines w0.254: -1.77,-83.05 4.32,-83.05 4.32,1.77 -1.77,1.77 -1.77,-83.05
Top Designator:
  text ".Designator" at -6.343,-41.148 h1.52